# EAGLE library part USB-787616 (library C64toUSBKeyboard)
AMP connector
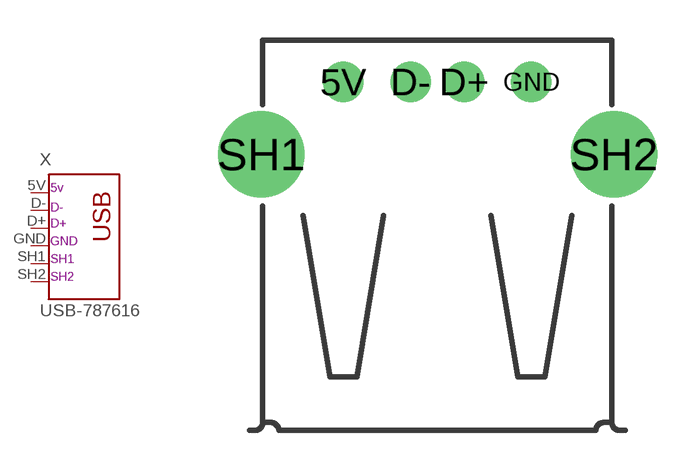
[diagram p0: symbol with the pads of USB; footprint USB]

Designator prefix X

## USB-787616  [USB]
5V  1  pas
D+  3  pas
D-  2  pas
GND  4  pas
SH1  5  pas
SH2  6  pas

## Footprint USB (pad centres in mm)
USB connector
drill 1: 5V -3.5,12.99; D+ 1,12.99; D- -1,12.99; GND 3.5,12.99
drill 2.2: SH1 -6.553,10.287; SH2 6.579,10.287